# Altium schematic symbol library Libreria Pablo.SchLib: 74 symbols
Pins are listed as number, name and electrical type; pins without a type are passive.

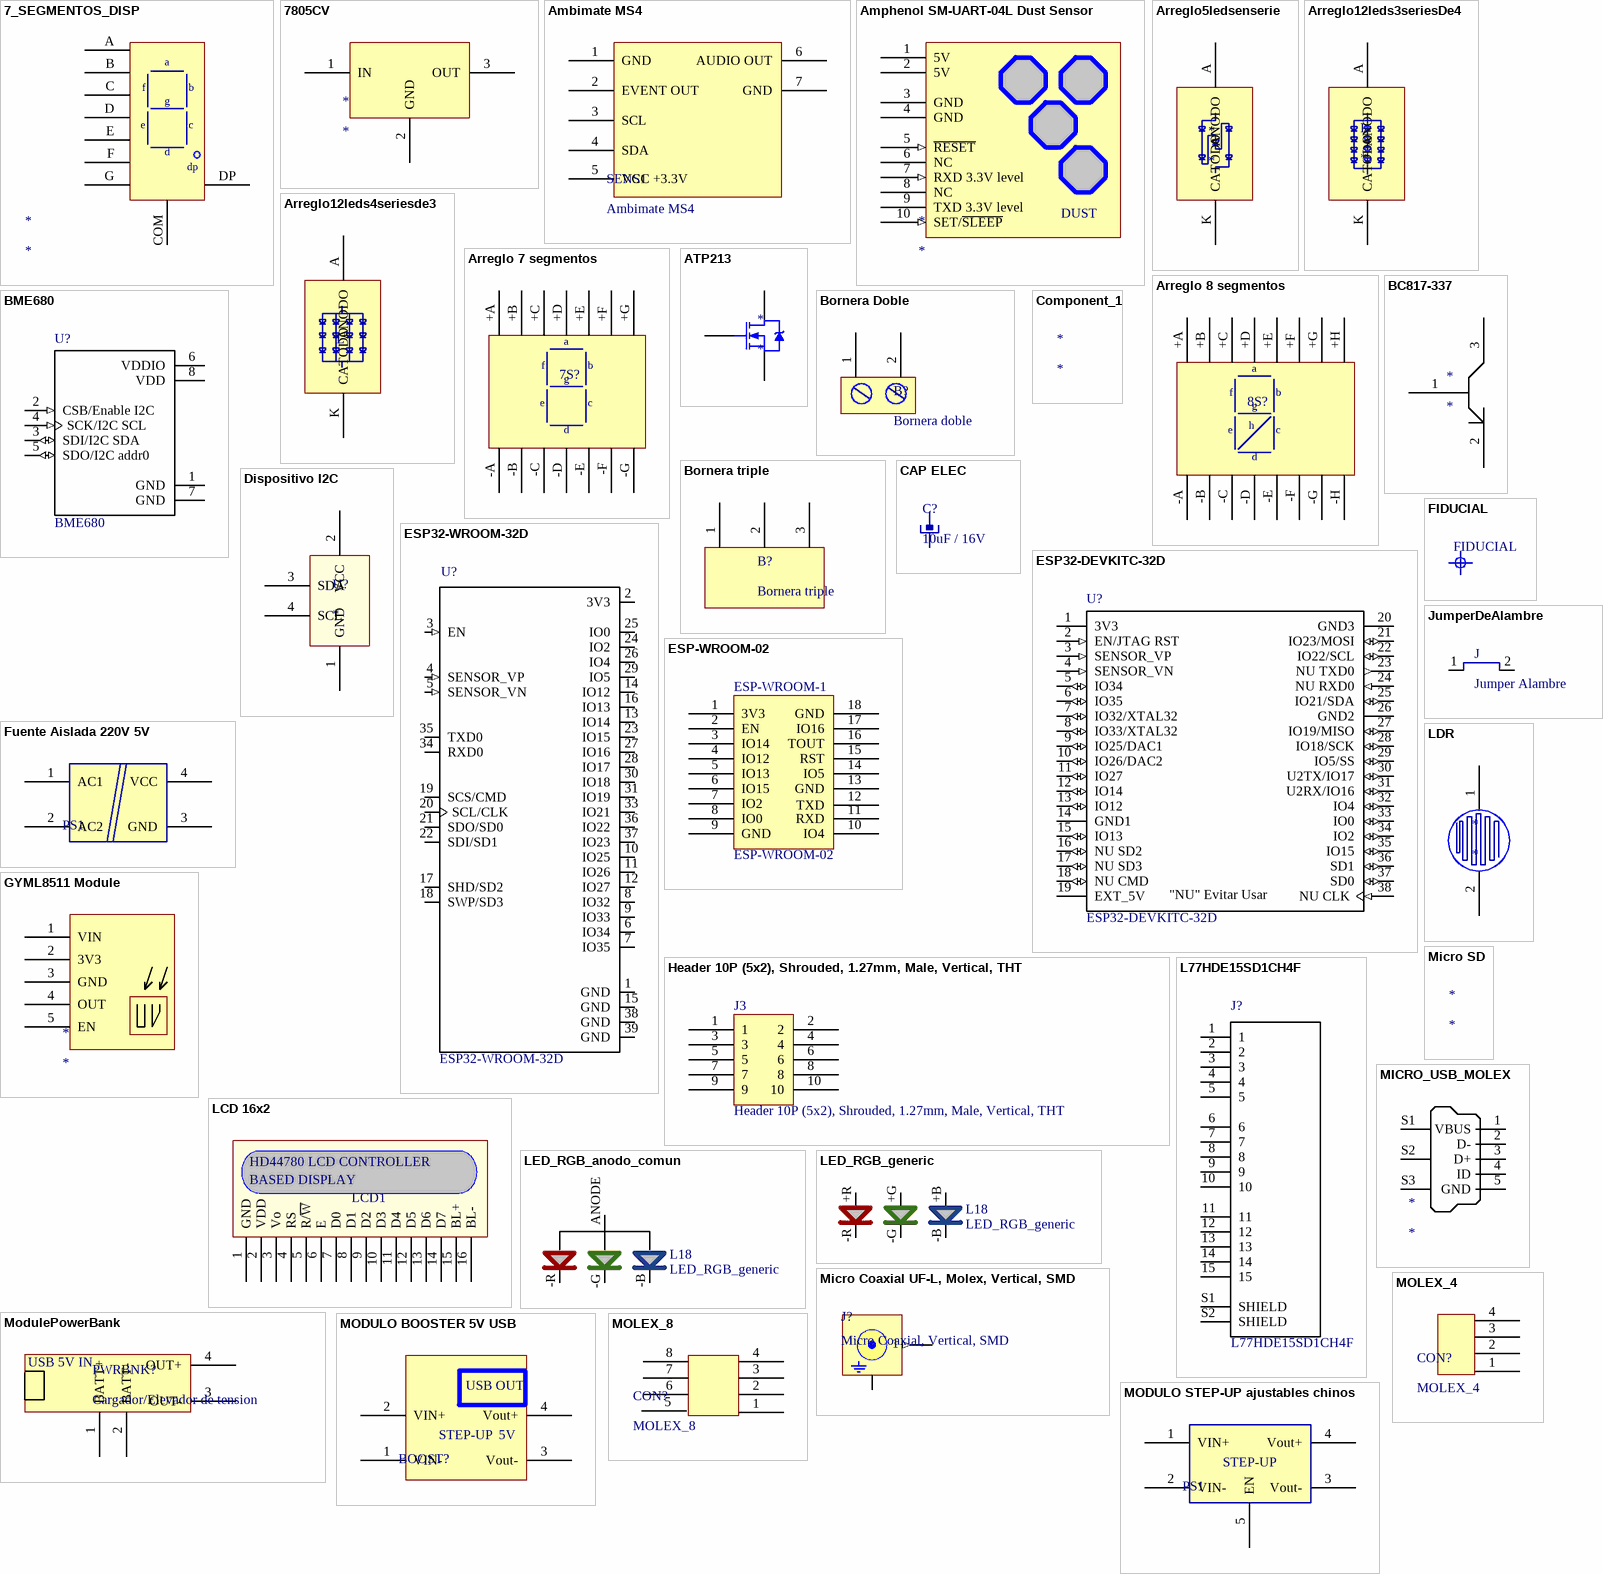
[diagram p0: symbols 7_SEGMENTOS_DISP to MOLEX_8]

## 7_SEGMENTOS_DISP
designator *
footprint 7SEG_19mm
pins: A, B, C, COM, D, DP, E, F, G
text: a; f; b; g; e; c; d; dp

## 7805CV
designator *
footprint TO220 (TO, Thru-Hole, Vertical, Heatsink Mounted; 3 In-Line Leads; Pitch 2.54 mm)
pins: 1 IN "Entrada positiva", 2 GND "MASA", 3 OUT "Salida Regulada"

## Ambimate MS4
designator SENS1
footprint AMBIMATE MS4TH
footprint AMBIMATE MS4 SMD
pins: 1 GND, 2 EVENT OUT, 3 SCL, 4 SDA, 5 VCC +3.3V, 6 AUDIO OUT, 7 GND

## Amphenol SM-UART-04L Dust Sensor
designator *
footprint Amphenol SM-UART-04L (Amphenol DUST SENSOR connector FCI 20021311-00010T4LF)
pins: 1 5V (power), 2 5V (power), 3 GND (power), 4 GND (power), 5 ~{RESET} (in), 6 NC, 7 RXD 3.3V level (in), 8 NC, 9 TXD 3.3V level, 10 SET/~{SLEEP} (in)
text: DUST

## Arreglo5ledsenserie
designator *
footprint ARREGLO_5_LEDS (pixel de 5 leds en serie)
pins: A ANODO, K CATODO

## Arreglo12leds3seriesDe4
designator L
footprint ARREGLO12LED_3seriesDe4 (Arreglo de 12 led para semaforo UV)
footprint ARREGLO12LED_3seriesDe4 CHICO (Arreglo de 12 led para semaforo UV)
pins: A ANODO, K CATODO

## Arreglo12leds4seriesde3
designator L  (value not drawn)
footprint ARREGLO12LED_4seriesDe3 (Arreglo de 12 led para semaforo UV)
footprint ARREGLO12LED_4seriesDe3 CHICO (Arreglo de 12 led para semaforo UV)
pins: A ANODO, K CATODO

## Arreglo 7 segmentos
designator 7S?, comment 7 segmentos en led  (value not drawn)
footprint ARREGLO 7 SEGMENTOS (Display hecho de leds en serie con un tamaño de 10.5'')
footprint ARREGLO12LED_4seriesDe3 CHICO (Arreglo de 12 led para semaforo UV)
footprint ARREGLO_7_SEGMENTOS_10x20 (Footprint not found)
pins: +A, +B, +C, +D, +E, +F, +G, -A, -B, -C, -D, -E, -F, -G
text: a; f; b; g; e; c; d

## Arreglo 8 segmentos
designator 8S?, comment 8 segmentos para formar la v corta  (value not drawn)
footprint ARREGLO_8_SEGMENTOS (Arreglo de 8 segmentos para formar la v corta)
footprint ARREGLO_8_SEGMENTOS (Arreglo de 8 segmentos para formar la v corta)
pins: +A, +B, +C, +D, +E, +F, +G, +H, -A, -B, -C, -D, -E, -F, -G, -H
text: a; f; b; g; h; e; c; d

## ATP213
designator *
footprint ATPAK (atpak de on semiconductor)
footprint ATPAK b (atpak de on semiconductor)
pins: 1 G, 2 D, 3 S

## BC817-337
designator *
footprint SOT23-3L (SOT23, 3-Leads, Body 2.9x1.3mm, Pitch 0.95mm, Lead Span 2.5mm, IPC High Density)
pins: 1, 2, 3

## BME680
designator U?
Integrated Environmental Unit; MF: Bosch Sensortec; SnapEDA_Link: https://www.snapeda.com/parts/BME680/Bosch%20Sensortec/view-part/?ref=snap; Digi-Key_Purchase_URL: https://www.digikey.com/product-detail/en/bosch-sensortec/BME680/828-1077-1-ND/7401321?utm_source=snapeda&utm_medium=aggregator&utm_campaign=symbol; MP: BME680; Digi-Key_Part_Number: 828-1077-1-ND; Package: LGA-8 Bosch Tools; Value: *
footprint BME680
pins: 1 GND (power), 2 CSB/Enable I2C (in), 3 SDI/I2C SDA (io), 4 SCK/I2C SCL (in), 5 SDO/I2C addr0 (io), 6 VDDIO (power), 7 GND (power), 8 VDD (power)

## Bornera Doble
designator B?, comment Bornera doble
footprint BORNERA 2
pins: 1, 2

## Bornera triple
designator B?
footprint BORNERA 3
pins: 1, 2, 3

## CAP ELEC
designator C?, comment 10uF / 16V
Value: 10uF
footprint Capacitor_Cega (Capacitor radial generico)
pins: 1, 2

## Component_1
designator *

## Dispositivo I2C
designator U?
Simbolo generico para sacar un dispositivo I2C fuera de placa
footprint T4_dos_pasos (terminal de 4 contactos con paso de 0.254mm o de 0.2mm)
pins: 1 GND, 2 VCC, 3 SDA, 4 SCL

## ESP32-DEVKITC-32D
designator U?
Eval Board For Esp-Wroom-32; MF: Espressif Systems; Availability: Unavailable; Price: None; Package: None; SnapEDA_Link: https://www.snapeda.com/parts/ESP32-DEVKITC-32D/Espressif%20Systems/view-part/?ref=snap; MP: ESP32-DEVKITC-32D; Value: *
footprint MODULE_ESP32-DEVKITC-32D
pins: 1 3V3 (power), 2 EN/JTAG RST (in), 3 SENSOR_VP (in), 4 SENSOR_VN (in), 5 IO34 (io), 6 IO35 (io), 7 IO32/XTAL32 (io), 8 IO33/XTAL32 (io), 9 IO25/DAC1 (io), 10 IO26/DAC2 (io), 11 IO27 (io), 12 IO14 (io), 13 IO12 (io), 14 GND1 (power), 15 IO13 (io), 16 NU SD2 (io), 17 NU SD3 (io), 18 NU CMD (io), 19 EXT_5V (power), 20 GND3 (power), 21 IO23/MOSI (io), 22 IO22/SCL (io), 23 NU TXD0 (out), 24 NU RXD0 (in), 25 IO21/SDA (io), 26 GND2 (power), 27 IO19/MISO (io), 28 IO18/SCK (io), 29 IO5/SS (io), 30 U2TX/IO17 (io), 31 U2RX/IO16 (io), 32 IO4 (io), 33 IO0 (io), 34 IO2 (io), 35 IO15 (io), 36 SD1 (io), 37 SD0 (io), 38 NU CLK (in)
text: "NU" Evitar Usar

## ESP32-WROOM-32D
designator U?
IC: SoC; GPIO, I2C, I2S, IR, SD, SDIO, SPI, UART; 2.7Ã·3.6VDC; 20dBm; MF: Espressif Systems; Digi-Key_Purchase_URL: https://www.digikey.com.ar/product-detail/en/espressif-systems/ESP32-WROOM-32D/1904-1023-1-ND/9381732?utm_source=snapeda&utm_medium=aggregator&utm_campaign=symbol; MP: ESP32-WROOM-32D; Package: Module Espressif Systems; SnapEDA_Link: https://www.snapeda.com/parts/ESP32-WROOM-32D/Espressif%20Systems/view-part/?ref=snap; Digi-Key_Part_Number: 1904-1023-1-ND; Value: *
footprint MODULE_ESP32-WROOM-32D
pins: 1 GND (power), 2 3V3 (power), 3 EN (in), 4 SENSOR_VP (in), 5 SENSOR_VN (in), 6 IO34 (io), 7 IO35 (io), 8 IO32 (io), 9 IO33 (io), 10 IO25 (io), 11 IO26 (io), 12 IO27 (io), 13 IO14 (io), 14 IO12 (io), 15 GND (power), 16 IO13 (io), 17 SHD/SD2 (io), 18 SWP/SD3 (io), 19 SCS/CMD (io), 20 SCL/CLK (io), 21 SDO/SD0 (io), 22 SDI/SD1 (io), 23 IO15 (io), 24 IO2 (io), 25 IO0 (io), 26 IO4 (io), 27 IO16 (io), 28 IO17 (io), 29 IO5 (io), 30 IO18 (io), 31 IO19 (io), 33 IO21 (io), 34 RXD0 (io), 35 TXD0 (io), 36 IO22 (io), 37 IO23 (io), 38 GND (power), 39 GND (power)

## ESP-WROOM-02
designator ESP-WROOM-1
footprint ESP-WROOM-02
pins: 1 3V3, 2 EN, 3 IO14, 4 IO12, 5 IO13, 6 IO15, 7 IO2, 8 IO0, 9 GND, 10 IO4, 11 RXD, 12 TXD, 13 GND, 14 IO5, 15 RST, 16 TOUT, 17 IO16, 18 GND

## FIDUCIAL
designator FIDUCIAL
footprint Fiducial_Chico (Fiducial para pick and place chico.)
footprint FIDUCIAL_GRANDE (Fiducial para pick and place chico.)

## Fuente Aislada 220V 5V
designator PS1, comment Power supply  (value not drawn)
footprint HI-LINK 220V 5V (Fuente aislada 220V/5V para PCB)
pins: 1 AC1, 2 AC2, 3 GND, 4 VCC

## GYML8511 Module
designator *
footprint GYML8511 MODULE SMD (modulo UV GYML8511 para montaje superficial del mismo)
pins: 1 VIN (power), 2 3V3 (power), 3 GND (power), 4 OUT (power), 5 EN (power)

## Header 10P (5x2), Shrouded, 1.27mm, Male, Vertical, THT
designator J3
Manufacturer & OrderCode: CNC 3221-10-0100-00; Manufacturer1 & OrderCode: CNC 3220-10-0100-00; Manufacturer2 & OrderCode: Sullins SBH31-NBPB-D05-ST-BK; Database P/N: ELC-CON-0191; Operating Range: -40°C to +125°C; ID: 188; ComponentLink2Description: Component Web Page; ComponentLink2URL: http://cnctech.us/productdetails.asp?ID=4156; Supplier: Digikey; Supplier Order Code: 1175-1733-ND; Supplier (Reel): No Reel; Supplier (Reel Code): No Reel; Supplier1: Digikey; Supplier1 Order Code: 1175-1627-ND; Supplier2: Digikey; Supplier2 Order Code: S9085-ND
footprint CNC_3221-10-0100-00 (Header 10P (5x2) Shrouded, 1.27mm, Vertical, THT)
pins: 1, 2, 3, 4, 5, 6, 7, 8, 9, 10
1 alternate drawing of the same symbol

## JumperDeAlambre
designator J, comment Jumper Alambre
footprint Jumper 0.4 (Jumper alambre 0.4)
footprint Jumper 0.8 (Jumper alambre 0.4)
pins: 1, 2 1

## L77HDE15SD1CH4F
designator J?
Conn High Density D-Sub SKT 15 POS Solder RA Thru-Hole 15 Terminal 1 Port; MF: Amphenol ICC; MP: L77HDE15SD1CH4F; SnapEDA_Link: https://www.snapeda.com/parts/L77HDE15SD1CH4F/Amphenol%20ICC/view-part/?ref=snap; Price: None; Package: None; Availability: Unavailable; Value: *
footprint *AMPHENOL_L77HDE15SD1CH4F_L77HDE15SD1CH4F(Primary)
pins: 1, 2, 3, 4, 5, 6, 7, 8, 9, 10, 11, 12, 13, 14, 15, S1 SHIELD, S2 SHIELD

## LCD 16x2
designator LCD1
footprint LCD-FDCC1602G
pins: 1 GND, 2 VDD, 3 Vo, 4 RS, 5 R/~{W}, 6 E, 7 D0, 8 D1, 9 D2, 10 D3, 11 D4, 12 D5, 13 D6, 14 D7, 15 BL+, 16 BL-
text: HD44780 LCD CONTROLLER; BASED DISPLAY

## LDR
designator *
footprint RAD-0.3 (Footprint not found)
pins: 1, 2

## LED_RGB_anodo_comun
designator L18, comment LED_RGB_generic
footprint LED RGB 5mm
pins: -B (power), -G (power), -R (power), ANODE (power)

## LED_RGB_generic
designator L18
footprint LED RGB PLCC 5050 (everlight 5050)
pins: +B (power), +G (power), +R (power), -B (power), -G (power), -R (power)

## Micro Coaxial UF-L, Molex, Vertical, SMD
designator J?, comment Micro Coaxial, Vertical, SMD
Micro Coaxial UF-L, Vertical, SMD; Manufacturer & OrderCode: Molex SD-73412-011; Number of contacts: 4P; Field3: Mating: cable; Field2: Male; Field1: (pitch) no pitch; ComponentLink1Description: Primary datasheet of this component; ComponentLink1URL: Z:\LIBRARIES\Connectors\DATASHEET\734120110_sd.pdf; ComponentLink2Description: Secondary datasheet of this component; ComponentLink3Description: Component web page; ComponentLink3URL: http://www.molex.com/molex/products/datasheet.jsp?part=active/0734120110_RF_COAX_CONNECTORS.xml; Technology: SMT; Supplier: Digikey; Supplier Order Code: WM5587CT-ND; Dimensions (L x W): 3.80mm x 3.00mm; Height (H): 1.30mm
pins: 1 (out), 2 (power) "Ground"

## Micro SD
designator *

## MICRO_USB_MOLEX
designator *
pins: 1 VBUS, 2 D-, 3 D+, 4 ID, 5 GND, S1 Shell, S2 Shell, S3 Shell

## ModulePowerBank
designator PWRBNK?, comment Cargador/Elevador de tension
footprint ST6845-C power bank (Footprint not found)
pins: 1 BATT+, 2 BATT-, 3 OUT-, 4 OUT+
text: USB 5V IN

## MODULO BOOSTER 5V USB
designator BOOST?, comment Step up USB out module  (value not drawn)
footprint BOOSTER 5V USB (5V Step Up con USB)
pins: 1 VIN-, 2 VIN+, 3 Vout-, 4 Vout+
text: USB OUT; STEP-UP; 5V

## MODULO STEP-UP ajustables chinos
designator PS1, comment STEP-UP-MODULES  (value not drawn)
footprint MODULOS STEP-UP VARIOS (Varios modulos step-up chinos como el mt3608 valido para distintos tamaños)
pins: 1 VIN+, 2 VIN-, 3 Vout-, 4 Vout+, 5 EN
text: STEP-UP

## MOLEX_4
designator CON?
footprint MOLEX4 (Molex4)
pins: 1, 2, 3, 4

## MOLEX_8
designator CON?
footprint MOLEX8
pins: 1, 2, 3, 4, 5, 6, 7, 8

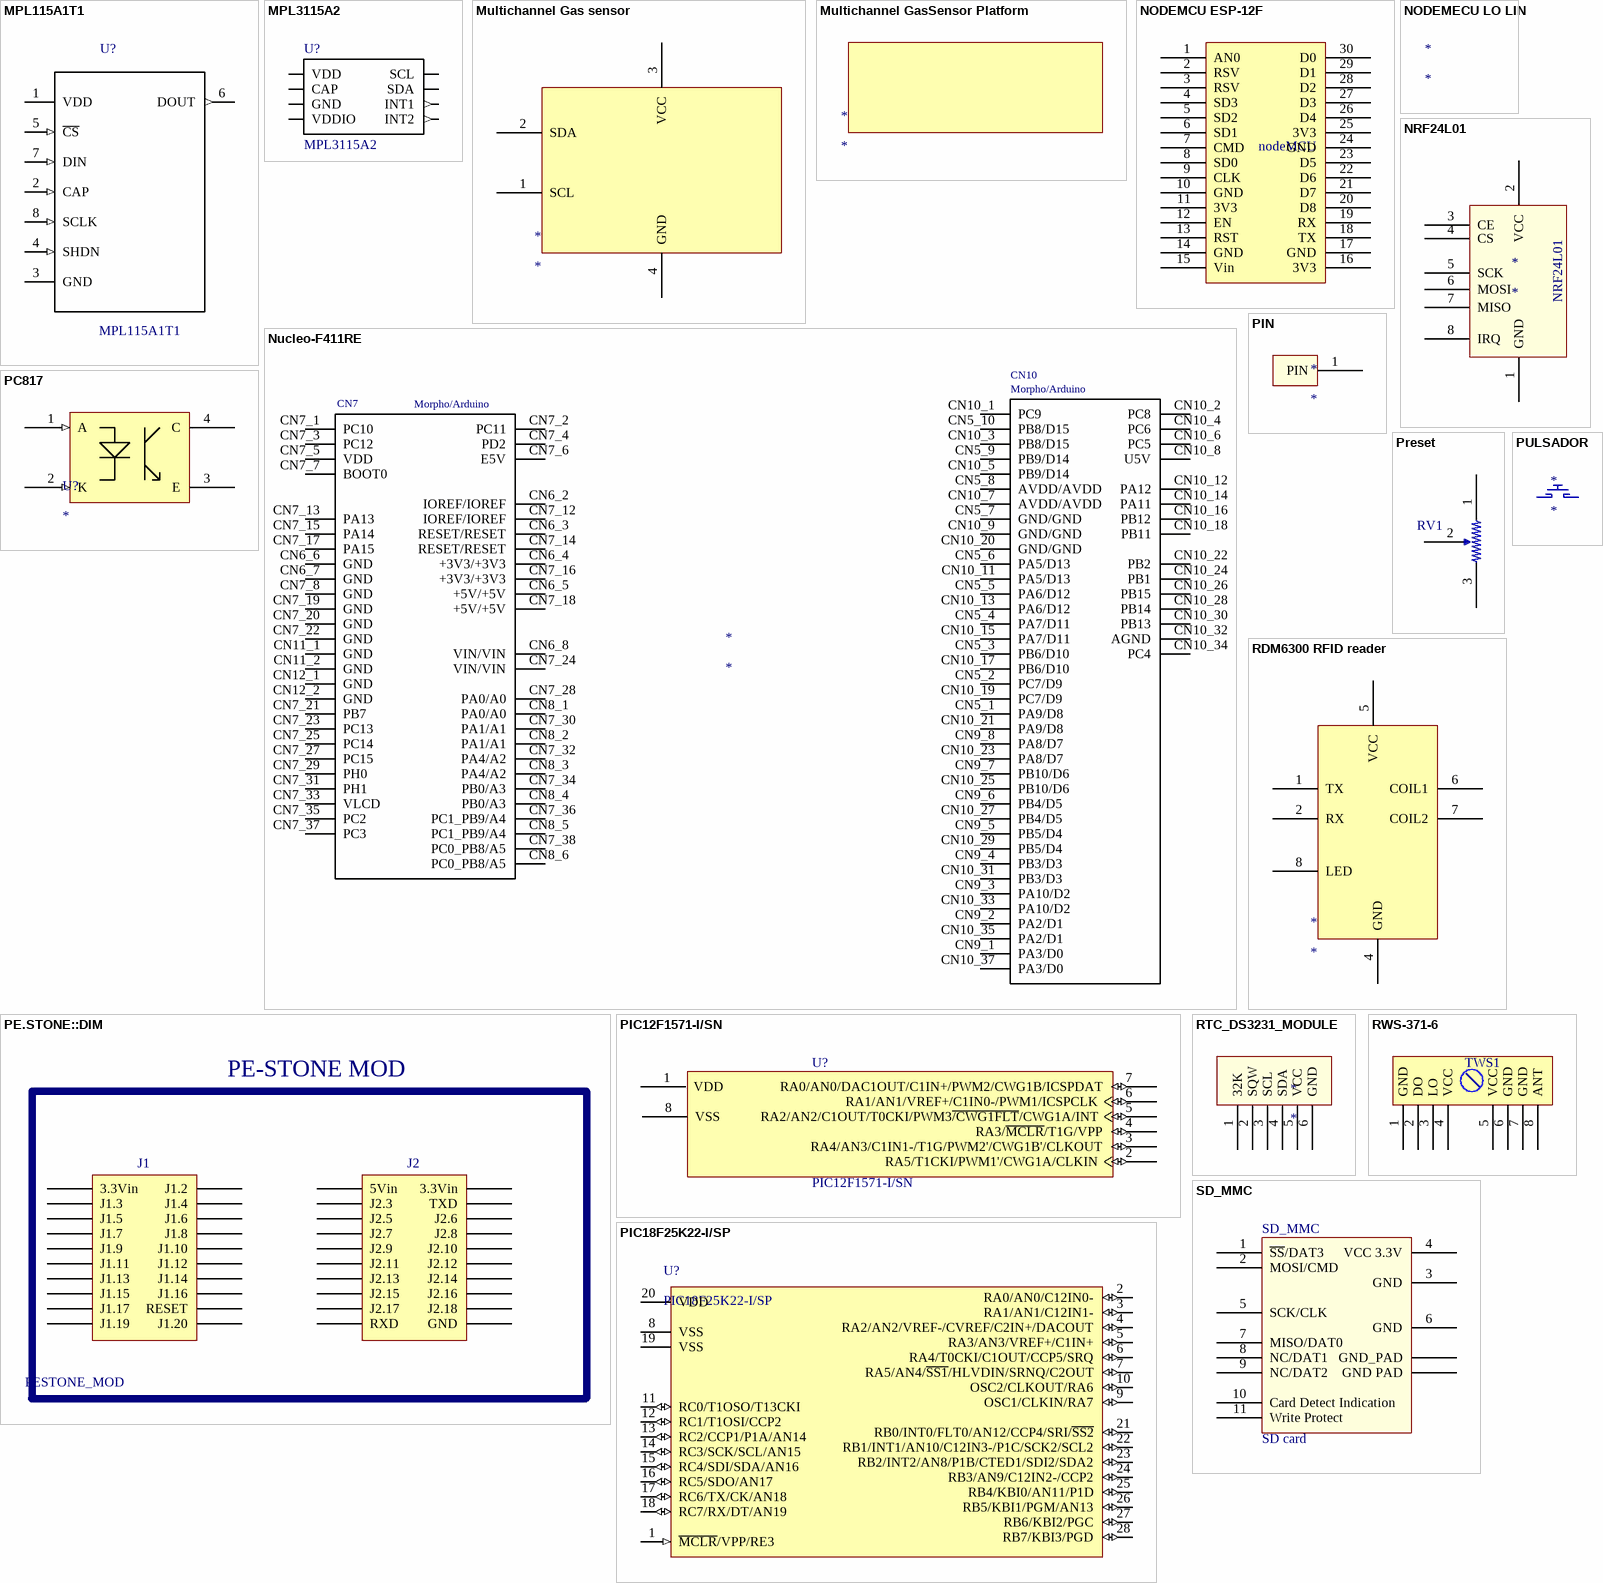
[diagram p1: symbols MPL115A1T1 to SD_MMC]

## MPL115A1T1
designator U?
Pressure Sensor 0V to 0.4V/0V to 0.6V 50kPa to 115kPa Absolute 8-Pin LGA T/R; MF: NXP USA; SnapEDA_Link: https://www.snapeda.com/parts/MPL115A1T1/NXP%20USA%20Inc./view-part/?ref=snap; Digi-Key_Purchase_URL: https://www.digikey.com/product-detail/en/nxp-usa-inc/MPL115A1T1/MPL115A1T1CT-ND/2214774?utm_source=snapeda&utm_medium=aggregator&utm_campaign=symbol; MP: MPL115A1T1; Digi-Key_Part_Number: MPL115A1T1CT-ND; Package: LGA-8 NXP Semiconductors; Value: *
footprint LGA8R125P0X4_500X300X120
pins: 1 VDD (power), 2 CAP (in), 3 GND, 4 SHDN (in), 5 ~{CS} (in), 6 DOUT (out), 7 DIN (in), 8 SCLK (in)

## MPL3115A2
designator U?
Pressure Sensor, 50-110kpa, Lga-8; MF: NXP USA; Digi-Key_Purchase_URL: https://www.digikey.com/product-detail/en/nxp-usa-inc/MPL3115A2/MPL3115A2-ND/2817529?utm_source=snapeda&utm_medium=aggregator&utm_campaign=symbol; SnapEDA_Link: https://www.snapeda.com/parts/MPL3115A2/NXP%20USA%20Inc./view-part/?ref=snap; MP: MPL3115A2; Digi-Key_Part_Number: MPL3115A2-ND; Package: LGA-8 NXP USA; Value: *
footprint *LGA-8-5X3
pins: 1 VDD (power), 2 CAP (power), 3 GND (power), 4 VDDIO (power), 5 INT2 (out), 6 INT1 (out), 7 SDA (io), 8 SCL (io)

## Multichannel Gas sensor
designator *
footprint PH_CONNECTOR_2MM (Footprint not found)
pins: 1 SCL, 2 SDA, 3 VCC, 4 GND

## Multichannel GasSensor Platform
designator *
footprint GROVE-MGS-PLATFORM (GROVE-TEST-PLATFORM)

## NODEMCU ESP-12F
designator nodeMCU  (value not drawn)
footprint NODEMCU_ESP12 3D (Placa nodeMCU footprint 3D)
pins: 1 AN0, 2 RSV, 3 RSV, 4 SD3, 5 SD2, 6 SD1, 7 CMD, 8 SD0, 9 CLK, 10 GND, 11 3V3, 12 EN, 13 RST, 14 GND, 15 Vin, 16 3V3, 17 GND, 18 TX, 19 RX, 20 D8, 21 D7, 22 D6, 23 D5, 24 GND, 25 3V3, 26 D4, 27 D3, 28 D2, 29 D1, 30 D0

## NODEMECU LO LIN
designator *

## NRF24L01
designator *
footprint NRF24L01_MODULO_CHICO
pins: 1 GND, 2 VCC, 3 CE, 4 CS, 5 SCK, 6 MOSI, 7 MISO, 8 IRQ

## Nucleo-F411RE
designator *
footprint NUCLEO64
pins: CN5_1 PA9/D8, CN5_2 PC7/D9, CN5_3 PB6/D10, CN5_4 PA7/D11, CN5_5 PA6/D12, CN5_6 PA5/D13, CN5_7 GND/GND, CN5_8 AVDD/AVDD, CN5_9 PB9/D14, CN5_10 PB8/D15, CN6_2 IOREF/IOREF, CN6_3 RESET/RESET, CN6_4 +3V3/+3V3, CN6_5 +5V/+5V, CN6_6 GND, CN6_7 GND, CN6_8 VIN/VIN, CN7_1 PC10, CN7_2 PC11, CN7_3 PC12, CN7_4 PD2, CN7_5 VDD, CN7_6 E5V, CN7_7 BOOT0, CN7_8 GND, CN7_12 IOREF/IOREF, CN7_13 PA13, CN7_14 RESET/RESET, CN7_15 PA14, CN7_16 +3V3/+3V3, CN7_17 PA15, CN7_18 +5V/+5V, CN7_19 GND, CN7_20 GND, CN7_21 PB7, CN7_22 GND, CN7_23 PC13, CN7_24 VIN/VIN, CN7_25 PC14, CN7_27 PC15, CN7_28 PA0/A0, CN7_29 PH0, CN7_30 PA1/A1, CN7_31 PH1, CN7_32 PA4/A2, CN7_33 VLCD, CN7_34 PB0/A3, CN7_35 PC2, CN7_36 PC1_PB9/A4, CN7_37 PC3, CN7_38 PC0_PB8/A5, CN8_1 PA0/A0, CN8_2 PA1/A1, CN8_3 PA4/A2, CN8_4 PB0/A3, CN8_5 PC1_PB9/A4, CN8_6 PC0_PB8/A5, CN9_1 PA3/D0, CN9_2 PA2/D1, CN9_3 PA10/D2, CN9_4 PB3/D3, CN9_5 PB5/D4, CN9_6 PB4/D5, CN9_7 PB10/D6, CN9_8 PA8/D7, CN10_1 PC9, CN10_2 PC8, CN10_3 PB8/D15, CN10_4 PC6, CN10_5 PB9/D14, CN10_6 PC5, CN10_7 AVDD/AVDD, CN10_8 U5V, CN10_9 GND/GND, CN10_11 PA5/D13, CN10_12 PA12, CN10_13 PA6/D12, CN10_14 PA11, CN10_15 PA7/D11, CN10_16 PB12, CN10_17 PB6/D10, CN10_18 PB11, CN10_19 PC7/D9, CN10_20 GND/GND, CN10_21 PA9/D8, CN10_22 PB2, CN10_23 PA8/D7, CN10_24 PB1, CN10_25 PB10/D6, CN10_26 PB15, CN10_27 PB4/D5, CN10_28 PB14, CN10_29 PB5/D4, CN10_30 PB13, CN10_31 PB3/D3, CN10_32 AGND, CN10_33 PA10/D2, CN10_34 PC4, CN10_35 PA2/D1, CN10_37 PA3/D0, CN11_1 GND, CN11_2 GND, CN12_1 GND, CN12_2 GND
text: CN10; Morpho/Arduino; CN7

## PC817
designator U?
footprint DIP4
pins: 1 A (in) "Anodo del led", 2 K (in) "Catodo del led", 3 E (oe) "Emisor del FT", 4 C (oc) "Colector del FT"

## PE.STONE::DIM
designator PESTONE_MOD  (value not drawn)
footprint PE-STONE_RECEPTACULO (CONECTORES PARA PESTONE STANDARD)
pins: J1.1 3.3Vin, J1.2, J1.3, J1.4, J1.5, J1.6, J1.7, J1.8, J1.9, J1.10, J1.11, J1.12, J1.13, J1.14, J1.15, J1.16, J1.17, J1.18 RESET, J1.19, J1.20, J2.1 5Vin, J2.2 3.3Vin, J2.3, J2.4 TXD, J2.5, J2.6, J2.7, J2.8, J2.9, J2.10, J2.11, J2.12, J2.13, J2.14, J2.15, J2.16, J2.17, J2.18, J2.19 RXD, J2.20 GND
text: PE-STONE MOD; J1; J2

## PIC12F1571-I/SN
designator U?
8-Pin MCU with High-Precision 16-Bit PWMs; Published: 29-Jan-2009; PackageVersion: revBB, Aug-2009; PackageReference: SOIC-SN8; Publisher: Altium Limited; PackageDescription: 8-Lead Plastic Small Outline (SN) - Narrow, 3.90mm Body [SOIC]; Supplier 1: Digi-Key; Supplier 2: Farnell
footprint SOIC-SN8_N (SOIC, 8-Leads, Body 4.9x3.8mm, Pitch 1.27mm, IPC Medium Density)
footprint SOIC-SN8_L (SOIC, 8-Leads, Body 4.9x3.8mm, Pitch 1.27mm, IPC High Density)
footprint SOIC-SN8_M (SOIC, 8-Leads, Body 4.9x3.8mm, Pitch 1.27mm, IPC Low Density)
pins: 1 VDD (power), 2 RA5/T1CKI/PWM1'/CWG1A/CLKIN (io), 3 RA4/AN3/C1IN1-/T1G/PWM2'/CWG1B'/CLKOUT (io), 4 RA3/~{MCLR}/T1G/VPP (io), 5 RA2/AN2/C1OUT/T0CKI/PWM3~{/CWG1FLT}/CWG1A/INT (io), 6 RA1/AN1/VREF+/C1IN0-/PWM1/ICSPCLK (io), 7 RA0/AN0/DAC1OUT/C1IN+/PWM2/CWG1B/ICSPDAT (io), 8 VSS (power)

## PIC18F25K22-I/SP
designator U?
Flash Microcontroller with 30-Bit A/D and nanoWatt Technology, 32K Flash, 28-Pin SPDIP, Industrial Temperature Range; Published: 29-Jan-2009; LatestRevisionDate: 02-Dec-2009; LatestRevisionNote: Updated to datasheet revision F, Sep-2009; DatasheetVersion: revF, Sep-2009; PackageVersion: revBB, Aug-2009; PackageReference: SPDIP300-SP28; Publisher: Altium Limited; PackageDescription: 28-Lead Skinny Plastic Dual In-Line (SP) - 300 mil Body [SPDIP]; Supplier 1: Digi-Key; Supplier Part Number 1: PIC18F25K20-I/SP-ND; Supplier 2: Farnell; Supplier Part Number 2: 1439578; ComponentLink1Description: Datasheet; ComponentLink1URL: http://ww1.microchip.com/downloads/en/DeviceDoc/41303F.pdf; ComponentLink2Description: Packaging Specification; ComponentLink2URL: http://www.microchip.com/stellent/groups/techpub_sg/documents/packagingspec/en012702.pdf; ComponentLink3Description: Microchip.com Home; ComponentLink3URL: http://www.microchip.com/
footprint SPDIP300-SP28 (DIP, 28-Leads, Row Spacing 7.62mm, Pitch 2.54mm, Body 34.9x6.8mm)
pins: 1 ~{MCLR}/VPP/RE3 (in), 2 RA0/AN0/C12IN0- (io), 3 RA1/AN1/C12IN1- (io), 4 RA2/AN2/VREF-/CVREF/C2IN+/DACOUT (io), 5 RA3/AN3/VREF+/C1IN+ (io), 6 RA4/T0CKI/C1OUT/CCP5/SRQ (io), 7 RA5/AN4/~{SS1}/HLVDIN/SRNQ/C2OUT (io), 8 VSS (power), 9 OSC1/CLKIN/RA7 (io), 10 OSC2/CLKOUT/RA6 (io), 11 RC0/T1OSO/T13CKI (io), 12 RC1/T1OSI/CCP2 (io), 13 RC2/CCP1/P1A/AN14 (io), 14 RC3/SCK/SCL/AN15 (io), 15 RC4/SDI/SDA/AN16 (io), 16 RC5/SDO/AN17 (io), 17 RC6/TX/CK/AN18 (io), 18 RC7/RX/DT/AN19 (io), 19 VSS (power), 20 VDD (power), 21 RB0/INT0/FLT0/AN12/CCP4/SRI/~{SS2} (io), 22 RB1/INT1/AN10/C12IN3-/P1C/SCK2/SCL2 (io), 23 RB2/INT2/AN8/P1B/CTED1/SDI2/SDA2 (io), 24 RB3/AN9/C12IN2-/CCP2 (io), 25 RB4/KBI0/AN11/P1D (io), 26 RB5/KBI1/PGM/AN13 (io), 27 RB6/KBI2/PGC (io), 28 RB7/KBI3/PGD (io)

## PIN
designator *
pins: 1 PIN

## Preset
designator RV1  (value not drawn)
pins: 1, 2 Wiper, 3

## PULSADOR
designator *
footprint TSX88HN (Pulsador 8x8x5 goma)
footprint TSQ-B
footprint Pulsador (Pulsador con rosca frontal)
footprint SMD TACT SWITCH UNIVERSAL (FOOTPRINT QUE CREE PARA METER DOS MODELOS DE TACT SWITCH LARGOS SMD)
footprint tact switch 6x6x5 4P (Tact Switch 4pines horizontal 4 pines)
footprint TactSwitch_6x3.5 (Tact Switch 2 terminals)
pins: 1, 2

## RDM6300 RFID reader
designator *
footprint RDM6300 EM4100 RFID Card Reader (EM4100 RFID Card Reader)
pins: 1 TX, 2 RX, 4 GND, 5 VCC, 6 COIL1, 7 COIL2, 8 LED

## RTC_DS3231_MODULE
designator *
footprint RTC_DS3231_MODULE_Horizontal
pins: 1 32K, 2 SQW, 3 SCL, 4 SDA, 5 VCC, 6 GND

## RWS-371-6
designator TWS1  (value not drawn)
footprint RWS-371-6 (WEN SHING  Receiver Module : RWS-371-6 (433.92 MHZ))
pins: 1 GND, 2 DO, 3 LO, 4 VCC, 5 VCC, 6 GND, 7 GND, 8 ANT

## SD_MMC
designator SD_MMC, comment SD card
SD socket
footprint SD-RSMT-2-MQ-WF (Footprint not found)
pins: 1 ~{SS}/DAT3, 2 MOSI/CMD, 3 GND (power), 4 VCC 3.3V, 5 SCK/CLK, 6 GND (power), 7 MISO/DAT0, 8 NC/DAT1, 9 NC/DAT2, 10 Card Detect Indication, 11 Write Protect, G1 GND_PAD (power), G2 GND PAD (power)

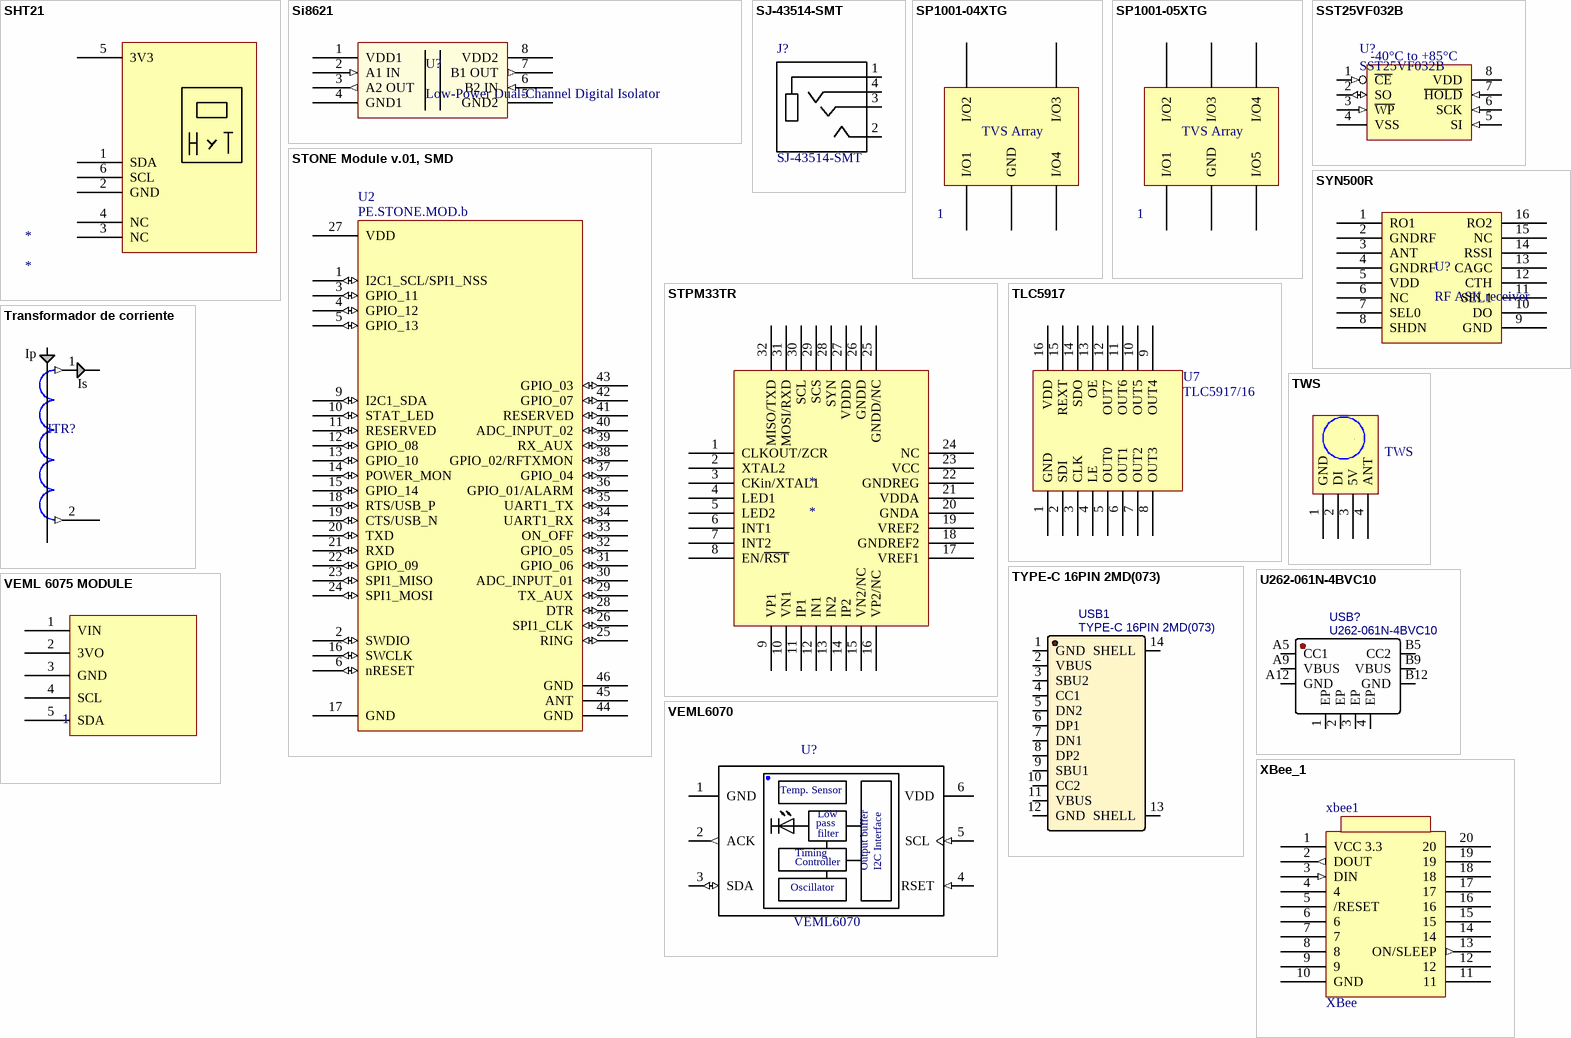
[diagram p2: symbols SHT21 to XBee_1]

## SHT21
designator *
footprint SHT21
pins: 1 SDA (oc), 2 GND, 3 NC, 4 NC, 5 3V3, 6 SCL (oc)

## Si8621
designator U?, comment Low-Power Dual-Channel Digital Isolator
footprint SOIC127P600X175-8AN (SOIC, 8-Leads, Body 4.9x3.9mm, Pitch 1.27mm, IPC Medium Density)
pins: 1 VDD1 (power), 2 A1 IN (in), 3 A2 OUT (out), 4 GND1 (power), 5 GND2 (power), 6 B2 IN (in), 7 B1 OUT (out), 8 VDD2 (power)

## SJ-43514-SMT
designator J?
4 conductor 3.5 mm Surface Mount Audio Jack; MF: CUI Inc.; MP: SJ-43514-SMT; SnapEDA_Link: https://www.snapeda.com/parts/SJ-43514-SMT/CUI%20Inc./view-part/?ref=snap; Package: None; Price: None; Availability: Unavailable; Value: *
footprint *CUI_SJ-43514-SMT
footprint CUI_SJ-43514-SMT
pins: 1 SLEEVE, 2 TIP, 3 RING1, 4 RING2

## SP1001-04XTG
designator 1
footprint SOT553
pins: 1 I/O1, 2 GND, 3 I/O4, 4 I/O3, 5 I/O2
text: TVS Array

## SP1001-05XTG
designator 1
footprint SOT563
pins: 1 I/O1, 2 GND, 3 I/O5, 4 I/O4, 5 I/O3, 6 I/O2
text: TVS Array

## SST25VF032B
designator U?  Operating Range: -40°C to +85°C
32 Mbit SPI Serial Flash; Manufacturer & OrderCode: Microchip SST25VF032B-80-4I-S2AF; Field1: pitch: 1.27mm; Field2: Isupply(min)=20uA (standby); Field3: SOIJ-8; Number of contacts: 8P; Voltage Input: 2.7V to 3.6V; Technology: SMT; Dimensions (L x W): 8.10mm x 5.40mm; Height (H): 2.16mm; Supplier: Microchip; Supplier Order Code: SST25VF032B-80-4I-S2AF; ComponentLink1Description: Datasheet; ComponentLink2URL: http://www.microchip.com/wwwproducts/Devices.aspx?dDocName=en549421; ComponentLink2Description: Component web page; ComponentLink1URL: Z:\LIBRARIES\ICs\DATASHEET\SST25VF032B.pdf
footprint SOIC127P790X216-8N (SOIC, 8-Leads, Body 5.4x5.4mm (max), Pitch 1.27mm, IPC Medium Density)
pins: 1 ~{CE} (in), 2 SO (io), 3 ~{WP} (in), 4 VSS (power), 5 SI (in), 6 SCK (in), 7 ~{HOLD} (in), 8 VDD (power)

## STONE Module v.01, SMD
designator U2, comment PE.STONE.MOD.b
SmarT Object Network Engine, Sub-GHz Radio Module, 868MHz, 915MHz, 920MHz; Manufacturer & OrderCode: Paradox Engineering PE.STONE.MOD.b; Database P/N: ELB-PED-0083-02; Number of contacts: 49P; Field3: case: 27.15mm x 16.00mm; Operating range: -40°C to +85°C; ID: 85; Paradox Section: STONE/AMI; PE Product Name: PE.STONE or PE.AMI (all versions); ComponentLink1Description: Primary Datasheet of Component; ComponentLink1URL: \\192.168.24.5\System\Project\PROGETTI\BOARD_ELETTRONICHE\PROGETTI\PE_STONE\v_01\ASSEMBLY_VARIANTS; ComponentLink3Description: Component web page; ComponentLink3URL: http://www.pe-stone.com; Technology: SMT; Supplier: Paradox Engineering; Supplier Order Code: PE.STONE.MOD.b; Dimensions (L x W): 27.15mm x 16.00mm; Height (H): 2.50mm; DocumentationLink: \\192.168.24.5\System\Project\PROGETTI\PE_STONE\v_01\ASSEMBLY_VARIANTS
footprint PE.STONE.MOD.v01 (STONE Modules, v01)
pins: 1 I2C1_SCL/SPI1_NSS (io), 2 SWDIO (io), 3 GPIO_11 (io), 4 GPIO_12 (io), 5 GPIO_13 (io), 6 nRESET (io), 9 I2C1_SDA (io), 10 STAT_LED (io), 11 RESERVED (io), 12 GPIO_08 (io), 13 GPIO_10 (io), 14 POWER_MON (io), 15 GPIO_14 (io), 16 SWCLK (io), 17 GND (power), 18 RTS/USB_P (io), 19 CTS/USB_N (io), 20 TXD (io), 21 RXD (io), 22 GPIO_09 (io), 23 SPI1_MISO (io), 24 SPI1_MOSI (io), 25 RING (io), 26 SPI1_CLK (io), 27 VDD (power), 28 DTR (io), 29 TX_AUX (io), 30 ADC_INPUT_01 (io), 31 GPIO_06 (io), 32 GPIO_05 (io), 33 ON_OFF (io), 34 UART1_RX (io), 35 UART1_TX (io), 36 GPIO_01/ALARM (io), 37 GPIO_04 (io), 38 GPIO_02/RFTXMON (io), 39 RX_AUX (io), 40 ADC_INPUT_02 (io), 41 RESERVED (io), 42 GPIO_07 (io), 43 GPIO_03 (io), 44 GND, 45 ANT, 46 GND

## STPM33TR
designator *
footprint QFN-32-5X5
pins: 1 CLKOUT/ZCR, 2 XTAL2, 3 CKin/XTAL1, 4 LED1, 5 LED2, 6 INT1, 7 INT2, 8 EN/~{RST}, 9 VP1, 10 VN1, 11 IP1, 12 IN1, 13 IN2, 14 IP2, 15 VN2/NC, 16 VP2/NC, 17 VREF1, 18 GNDREF2, 19 VREF2, 20 GNDA, 21 VDDA, 22 GNDREG, 23 VCC, 24 NC, 25 GNDD/NC, 26 GNDD, 27 VDDD, 28 SYN, 29 SCS, 30 SCL, 31 MOSI/RXD, 32 MISO/TXD

## SYN500R
designator U?, comment RF ASK receiver
footprint SSOP-16 (SSOP; 16 Leads; Body Width 3.9 mm; Pitch 0.64 mm)
pins: 1 RO1, 2 GNDRF, 3 ANT, 4 GNDRF, 5 VDD, 6 NC, 7 SEL0, 8 SHDN, 9 GND, 10 DO, 11 SEL1, 12 CTH, 13 CAGC, 14 RSSI, 15 NC, 16 RO2

## TLC5917
designator U7, comment TLC5917/16
footprint D016_M (16-Pin Small Outline Integrated Circuit 1.27 mm Pitch, IPC Low Density)
footprint DB016 (SSOP, Plastic; 16 Leads; Body Width 5.3 mm; Pitch 0.65 mm)
pins: 1 GND, 2 SDI, 3 CLK, 4 LE, 5 OUT0, 6 OUT1, 7 OUT2, 8 OUT3, 9 OUT4, 10 OUT5, 11 OUT6, 12 OUT7, 13 OE, 14 SDO, 15 REXT, 16 VDD

## Transformador de corriente
designator ITR?
footprint HMCT103C
pins: 1 (out), 2 (out)
text: Ip; Is

## TWS
designator TWS  (value not drawn)
footprint TWS-433 (WEN SHING  TRANSMITTER MODULE)
footprint TWS-433 (Footprint not found)
pins: 1 GND, 2 DI, 3 5V, 4 ANT

## TYPE-C 16PIN 2MD(073)
designator USB1
BOM_Manufacturer: SHOU HAN(首韩); Contributor: LCSC; BOM_Supplier: LCSC; BOM_Supplier Part: C2765186; BOM_Manufacturer Part: TYPE-C 16PIN 2MD(073); BOM_JLCPCB Part Class: Extended Part; spicePre: U; spiceSymbolName: TYPE-C 16PIN 2MD(073)
footprint USB-C-SMD_TYPE-C-6PIN-2MD-073
pins: 1 GND, 2 VBUS, 3 SBU2, 4 CC1, 5 DN2, 6 DP1, 7 DN1, 8 DP2, 9 SBU1, 10 CC2, 11 VBUS, 12 GND, 13 SHELL, 14 SHELL

## U262-061N-4BVC10
designator USB?
Usb Type C Female Connector; BOM_Manufacturer: XKB Connectivity; Contributor: LCSC; BOM_Supplier: LCSC; BOM_Supplier Part: C692420; BOM_Manufacturer Part: U262-061N-4BVC10; BOM_JLCPCB Part Class: Extended Part; spicePre: U; spiceSymbolName: U262-061N-4BVC10
footprint TYPE-C-SMD_TYPE-C-31-M-16
pins: 1 EP, 2 EP, 3 EP, 4 EP, A5 CC1, A9 VBUS, A12 GND, B5 CC2, B9 VBUS, B12 GND

## VEML6070
designator U?
UV 2.35 x 1.8 x 1 mm 16 bit 2.7 to 5.5 V 355 nm SMT I2C Light Sensor; MF: Vishay; Package: SMD-6 Vishay; Digi-Key_Part_Number: VEML6070CT-ND; MP: VEML6070; Digi-Key_Purchase_URL: https://www.digikey.com/product-detail/en/vishay-semiconductor-opto-division/VEML6070/VEML6070CT-ND/5171286?utm_source=snapeda&utm_medium=aggregator&utm_campaign=symbol; SnapEDA_Link: https://www.snapeda.com/parts/VEML6070/Vishay%20Semiconductor%20Opto%20Division/view-part/?ref=snap; Value: *
footprint PHODET_VEML6070 (Footprint not found)
pins: 1 GND (power), 2 ACK (out), 3 SDA (io), 4 RSET (in), 5 SCL (in), 6 VDD (power)
text: Temp. Sensor; Low; pass; filter; Timing; Controller; Output buffer; I2C Interface; Oscillator

## VEML 6075 MODULE
designator 1
footprint VEML6075_ADAFRUIT_MODULE (Modulo Adafruit para el VEML6075)
pins: 1 VIN (power), 2 3VO (power), 3 GND (power), 4 SCL (power), 5 SDA (power)

## XBee_1
designator xbee1, comment XBee
footprint PCBComponent_1
footprint XBEE (Mod xBEE)
pins: 1 VCC 3.3 (power), 2 DOUT (out), 3 DIN (in), 4, 5 /RESET, 6, 7, 8, 9, 10 GND (power), 11, 12, 13 ON/SLEEP (out), 14, 15, 16, 17, 18, 19, 20